# Altium schematic symbol library AQY212G3HSX.SchLib: 1 symbol
Pins are listed as number, name and electrical type; pins without a type are passive.

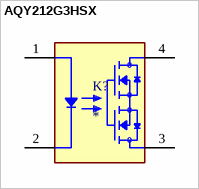
[diagram p0: symbol AQY212G3HSX]

## AQY212G3HSX
designator K?
Solid State Photo-Coupled Relay (Photorelay) SPST-NO (1 Form A) 4-SMD, Gull Wing; MF: Panasonic; MP: AQY212G3HSX; SnapEDA_Link: https://www.snapeda.com/parts/AQY212G3HSX/Panasonic/view-part/?ref=snap; Package: None; Value: *; Check_prices: https://www.snapeda.com/parts/AQY212G3HSX/Panasonic/view-part/?ref=eda
footprint SOIC254P680X230-4N
pins: 1, 2, 3, 4